# EAGLE library part RABBIT_RCM3XXX (library QuantumOptics)
Rabbit RCM3xxx Module, Rabbit module with ethernet. Remember connectors Sullins PPPN172AFCN (S5750-17-ND). http://www.zworld.com/documentation/docs/manuals/RCM3000/UsersManual/index.htm http://www.zworld.com/documentation/docs/manuals/RCM3000/UsersManual/RC3000UM.pdf Connector Sullin Electronics PPPN172AFCN, http://www.sullinselectronics.com/images/PPPNxx2AFCN-RC-10497.pdf
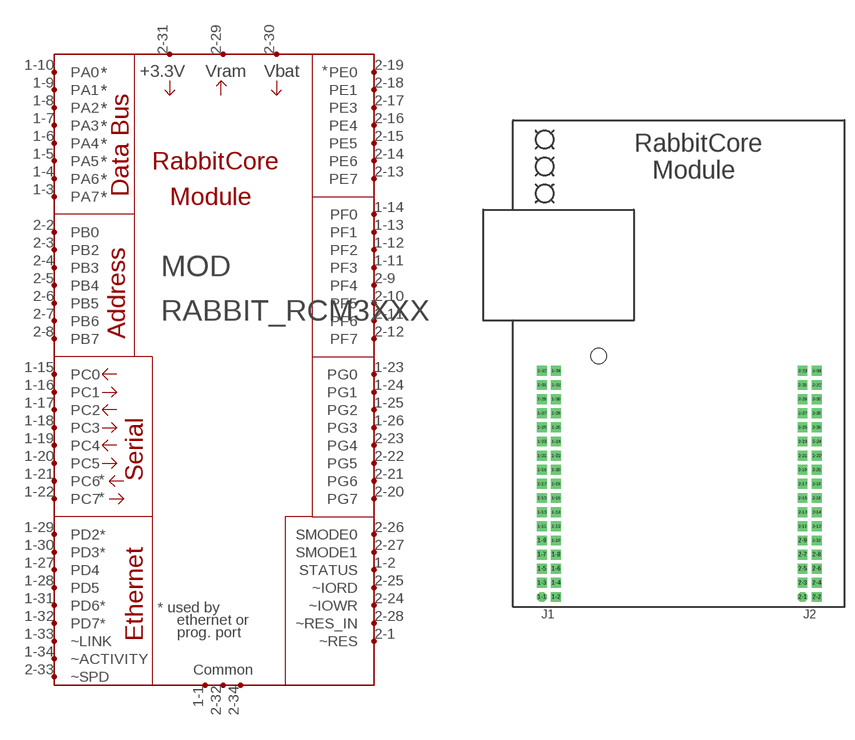
[diagram p65: symbol with the pads of RABBIT_RCM3XXX; footprint RABBIT_RCM3XXX]

Designator prefix MOD

## RABBIT_RCM3XXX  [RABBIT_RCM3XXX]
1-1  GND1
1-2  STATUS  out
1-3  PA7
1-4  PA6
1-5  PA5
1-6  PA4
1-7  PA3
1-8  PA2
1-9  PA1
1-10  PA0
1-11  PF3
1-12  PF2
1-13  PF1
1-14  PF0
1-15  PC0  out
1-16  PC1  in
1-17  PC2  out
1-18  PC3  in
1-19  PC4  out
1-20  PC5  in
1-21  PC6  out
1-22  PC7  in
1-23  PG0
1-24  PG1
1-25  PG2
1-26  PG3
1-27  PD4
1-28  PD5
1-29  PD2*
1-30  PD3*
1-31  PD6*
1-32  PD7*
1-33  ~LINK  nc
1-34  ~ACTIVITY  nc
2-1  ~RES
2-2  PB0
2-3  PB2
2-4  PB3
2-5  PB4
2-6  PB5
2-7  PB6
2-8  PB7
2-9  PF4
2-10  PF5
2-11  PF6
2-12  PF7
2-13  PE7
2-14  PE6
2-15  PE5
2-16  PE4
2-17  PE3
2-18  PE1
2-19  PE0
2-20  PG7
2-21  PG6
2-22  PG5
2-23  PG4
2-24  ~IOWR  out
2-25  ~IORD  in
2-26  SMODE0  in
2-27  SMODE1  in
2-28  ~RES_IN  in
2-29  VRAM  out
2-30  VBAT_EXT  in
2-31  +3.3V  in
2-32  GND2
2-33  ~SPD  nc
2-34  GND3

## Footprint RABBIT_RCM3XXX (pad centres in mm)
Rabbit RCM3xxx Module, Rabbit module with ethernet. Remember connectors Sullins PPPN172AFCN (S5750-17-ND). http://www.zworld.com/documentation/docs/manuals/RCM3000/UsersManual/index.htm http://www.zworld.com/documentation/docs/manuals/RCM3000/UsersManual/RC3000UM.pdf Connector Sullin Electronics PPPN172AFCN, http://www.sullinselectronics.com/images/PPPNxx2AFCN-RC-10497.pdf
drill 0.889 octagon: 1-1 -18.16,-28.65; 2-1 18.74,-28.65
drill 0.889 square: 1-2 -16.16,-28.65; 1-3 -18.16,-26.65; 1-4 -16.16,-26.65; 1-5 -18.16,-24.65; 1-6 -16.16,-24.65; 1-7 -18.16,-22.65; 1-8 -16.16,-22.65; 1-9 -18.16,-20.65; 1-10 -16.16,-20.65; 1-11 -18.16,-18.65; 1-12 -16.16,-18.65; 1-13 -18.16,-16.65; 1-14 -16.16,-16.65; 1-15 -18.16,-14.65; 1-16 -16.16,-14.65; 1-17 -18.16,-12.65; 1-18 -16.16,-12.65; 1-19 -18.16,-10.65; 1-20 -16.16,-10.65; 1-21 -18.16,-8.65; 1-22 -16.16,-8.65; 1-23 -18.16,-6.65; 1-24 -16.16,-6.65; 1-25 -18.16,-4.65; 1-26 -16.16,-4.65; 1-27 -18.16,-2.65; 1-28 -16.16,-2.65; 1-29 -18.16,-0.65; 1-30 -16.16,-0.65; 1-31 -18.16,1.35; 1-32 -16.16,1.35; 1-33 -18.16,3.35; 1-34 -16.16,3.35; 2-2 20.74,-28.65; 2-3 18.74,-26.65; 2-4 20.74,-26.65; 2-5 18.74,-24.65; 2-6 20.74,-24.65; 2-7 18.74,-22.65; 2-8 20.74,-22.65; 2-9 18.74,-20.65; 2-10 20.74,-20.65; 2-11 18.74,-18.65; 2-12 20.74,-18.65; 2-13 18.74,-16.65; 2-14 20.74,-16.65; 2-15 18.74,-14.65; 2-16 20.74,-14.65; 2-17 18.74,-12.65; 2-18 20.74,-12.65; 2-19 18.74,-10.65; 2-20 20.74,-10.65; 2-21 18.74,-8.65; 2-22 20.74,-8.65; 2-23 18.74,-6.65; 2-24 20.74,-6.65; 2-25 18.74,-4.65; 2-26 20.74,-4.65; 2-27 18.74,-2.65; 2-28 20.74,-2.65; 2-29 18.74,-0.65; 2-30 20.74,-0.65; 2-31 18.74,1.35; 2-32 20.74,1.35; 2-33 18.74,3.35; 2-34 20.74,3.35
hole 2.184 at -10.16,5.45